# Altium schematic symbol library GRM1885C1H101JA01D.SchLib: 1 symbol
Pins are listed as number, name and electrical type; pins without a type are passive.

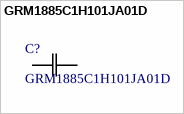
[diagram p0: symbol GRM1885C1H101JA01D]

## GRM1885C1H101JA01D
designator C?
CAP CER 100PF 50V C0G/NP0 0603; Manufacturer_Name: Murata; Copyright: Copyright (C) 2026 Ultra Librarian. All rights reserved.; Manufacturer_Part_Number: GRM1885C1H101JA01D
footprint CAP_188_MUR
pins: 1, 2